# EAGLE library part ERM8-049-01-D-RA (library con-samtec-er8)
ERM8 Series - Male Right Angle Edge Mount
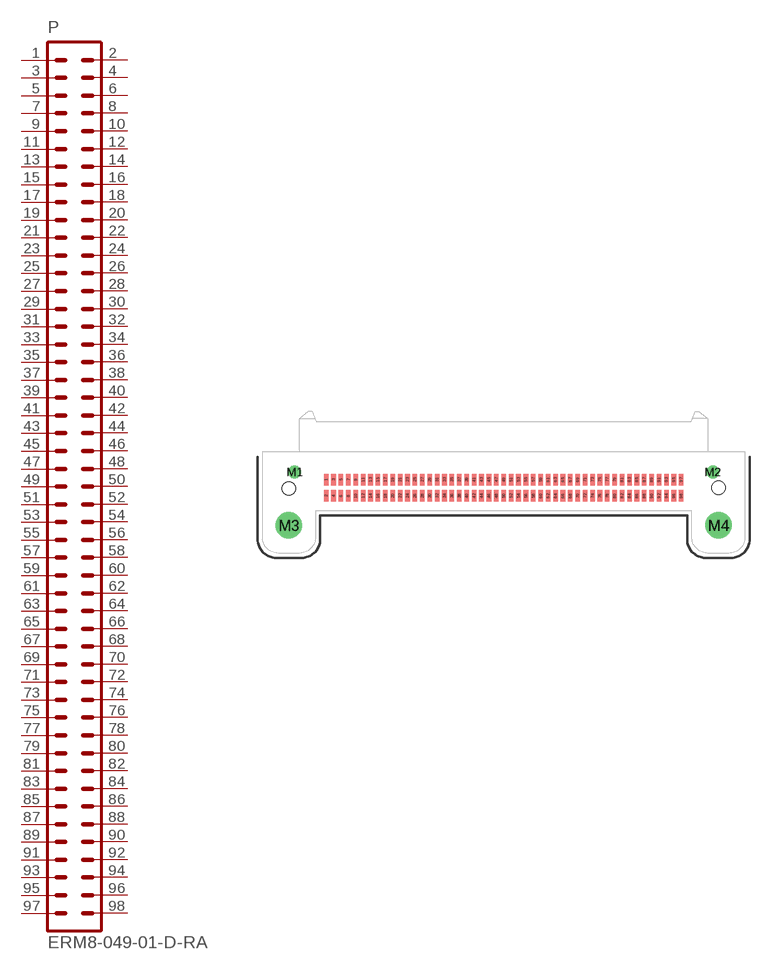
[diagram p23: symbol with the pads of ERM8-049-01-D-RA; footprint ERM8-049-01-D-RA]

Designator prefix P

## ERM8-049-01-D-RA  [ERM8-049-01-D-RA]
1  1  pas
2  2  pas
3  3  pas
4  4  pas
5  5  pas
6  6  pas
7  7  pas
8  8  pas
9  9  pas
10  10  pas
11  11  pas
12  12  pas
13  13  pas
14  14  pas
15  15  pas
16  16  pas
17  17  pas
18  18  pas
19  19  pas
20  20  pas
21  21  pas
22  22  pas
23  23  pas
24  24  pas
25  25  pas
26  26  pas
27  27  pas
28  28  pas
29  29  pas
30  30  pas
31  31  pas
32  32  pas
33  33  pas
34  34  pas
35  35  pas
36  36  pas
37  37  pas
38  38  pas
39  39  pas
40  40  pas
41  41  pas
42  42  pas
43  43  pas
44  44  pas
45  45  pas
46  46  pas
47  47  pas
48  48  pas
49  49  pas
50  50  pas
51  51  pas
52  52  pas
53  53  pas
54  54  pas
55  55  pas
56  56  pas
57  57  pas
58  58  pas
59  59  pas
60  60  pas
61  61  pas
62  62  pas
63  63  pas
64  64  pas
65  65  pas
66  66  pas
67  67  pas
68  68  pas
69  69  pas
70  70  pas
71  71  pas
72  72  pas
73  73  pas
74  74  pas
75  75  pas
76  76  pas
77  77  pas
78  78  pas
79  79  pas
80  80  pas
81  81  pas
82  82  pas
83  83  pas
84  84  pas
85  85  pas
86  86  pas
87  87  pas
88  88  pas
89  89  pas
90  90  pas
91  91  pas
92  92  pas
93  93  pas
94  94  pas
95  95  pas
96  96  pas
97  97  pas
98  98  pas

## Footprint ERM8-049-01-D-RA (pad centres in mm)
0.8mm Edge Rate Terminal Assembly MALE, Right Angle Double Row, 49 Position
smd 0.5 x 1.25: 1 -19.2,0.875; 2 -19.2,-0.875; 3 -18.4,0.875; 4 -18.4,-0.875; 5 -17.6,0.875; 6 -17.6,-0.875; 7 -16.8,0.875; 8 -16.8,-0.875; 9 -16,0.875; 10 -16,-0.875; 11 -15.2,0.875; 12 -15.2,-0.875; 13 -14.4,0.875; 14 -14.4,-0.875; 15 -13.6,0.875; 16 -13.6,-0.875; 17 -12.8,0.875; 18 -12.8,-0.875; 19 -12,0.875; 20 -12,-0.875; 21 -11.2,0.875; 22 -11.2,-0.875; 23 -10.4,0.875; 24 -10.4,-0.875; 25 -9.6,0.875; 26 -9.6,-0.875; 27 -8.8,0.875; 28 -8.8,-0.875; 29 -8,0.875; 30 -8,-0.875; 31 -7.2,0.875; 32 -7.2,-0.875; 33 -6.4,0.875; 34 -6.4,-0.875; 35 -5.6,0.875; 36 -5.6,-0.875; 37 -4.8,0.875; 38 -4.8,-0.875; 39 -4,0.875; 40 -4,-0.875; 41 -3.2,0.875; 42 -3.2,-0.875; 43 -2.4,0.875; 44 -2.4,-0.875; 45 -1.6,0.875; 46 -1.6,-0.875; 47 -0.8,0.875; 48 -0.8,-0.875; 49 0,0.875; 50 0,-0.875; 51 0.8,0.875; 52 0.8,-0.875; 53 1.6,0.875; 54 1.6,-0.875; 55 2.4,0.875; 56 2.4,-0.875; 57 3.2,0.875; 58 3.2,-0.875; 59 4,0.875; 60 4,-0.875; 61 4.8,0.875; 62 4.8,-0.875; 63 5.6,0.875; 64 5.6,-0.875; 65 6.4,0.875; 66 6.4,-0.875; 67 7.2,0.875; 68 7.2,-0.875; 69 8,0.875; 70 8,-0.875; 71 8.8,0.875; 72 8.8,-0.875; 73 9.6,0.875; 74 9.6,-0.875; 75 10.4,0.875; 76 10.4,-0.875; 77 11.2,0.875; 78 11.2,-0.875; 79 12,0.875; 80 12,-0.875; 81 12.8,0.875; 82 12.8,-0.875; 83 13.6,0.875; 84 13.6,-0.875; 85 14.4,0.875; 86 14.4,-0.875; 87 15.2,0.875; 88 15.2,-0.875; 89 16,0.875; 90 16,-0.875; 91 16.8,0.875; 92 16.8,-0.875; 93 17.6,0.875; 94 17.6,-0.875; 95 18.4,0.875; 96 18.4,-0.875; 97 19.2,0.875; 98 19.2,-0.875
drill 0.7 pad 1.4: M1 -22.6,1.69; M2 22.6,1.69
drill 1.91 pad 2.5: M3 -23.225,-4.09; M4 23.225,-4.09
hole 1.45 at -23.225,-0.09
hole 1.45 at 23.225,0